# Altium integrated library ECA1HHG101I.IntLib: 1 symbol
Pins are listed as number, name and electrical type; pins without a type are passive.

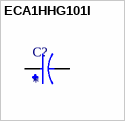
[diagram p0: symbol ECA1HHG101I]

## ECA1HHG101I
designator C?
Aluminum Electrolytic Capacitors, NHG-A Series, 100uF +/- 20%, 50V, Radial lead type(8x11.5mm); MF: Panasonic; MP: ECA1HHG101I; Value: *; Package: RADIAL-2 Panasonic; Check_prices: https://www.snapeda.com/parts/ECA1HHG101I/Panasonic/view-part/?ref=eda; Price: None; Availability: Not in stock; SnapEDA_Link: https://www.snapeda.com/parts/ECA1HHG101I/Panasonic/view-part/?ref=snap
footprint CAPPRD350W60D800H1150
pins: N, P